# Altium schematic symbol library STM32_BLUEPILL.SchLib: 1 symbol
Pins are listed as number, name and electrical type; pins without a type are passive.

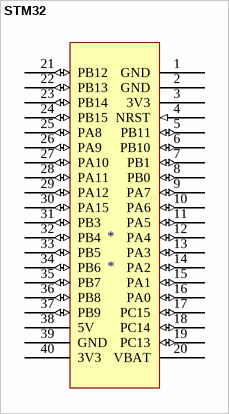
[diagram p0: symbol STM32]

## STM32
designator *
footprint STM32_Bluepill
pins: 1 GND (power), 2 GND (power), 3 3V3 (power), 4 NRST (in), 5 PB11 (io), 6 PB10 (io), 7 PB1 (io), 8 PB0 (io), 9 PA7 (io), 10 PA6 (io), 11 PA5 (io), 12 PA4 (io), 13 PA3 (io), 14 PA2 (io), 15 PA1 (io), 16 PA0 (io), 17 PC15 (io), 18 PC14 (io), 19 PC13 (io), 20 VBAT (power), 21 PB12 (io), 22 PB13 (io), 23 PB14 (io), 24 PB15 (io), 25 PA8 (io), 26 PA9 (io), 27 PA10 (io), 28 PA11 (io), 29 PA12 (io), 30 PA15 (io), 31 PB3 (io), 32 PB4 (io), 33 PB5 (io), 34 PB6 (io), 35 PB7 (io), 36 PB8 (io), 37 PB9 (io), 38 5V, 39 GND (power), 40 3V3 (power)